# EAGLE library part 5M570ZT100C5N (library Ilya_Teach)
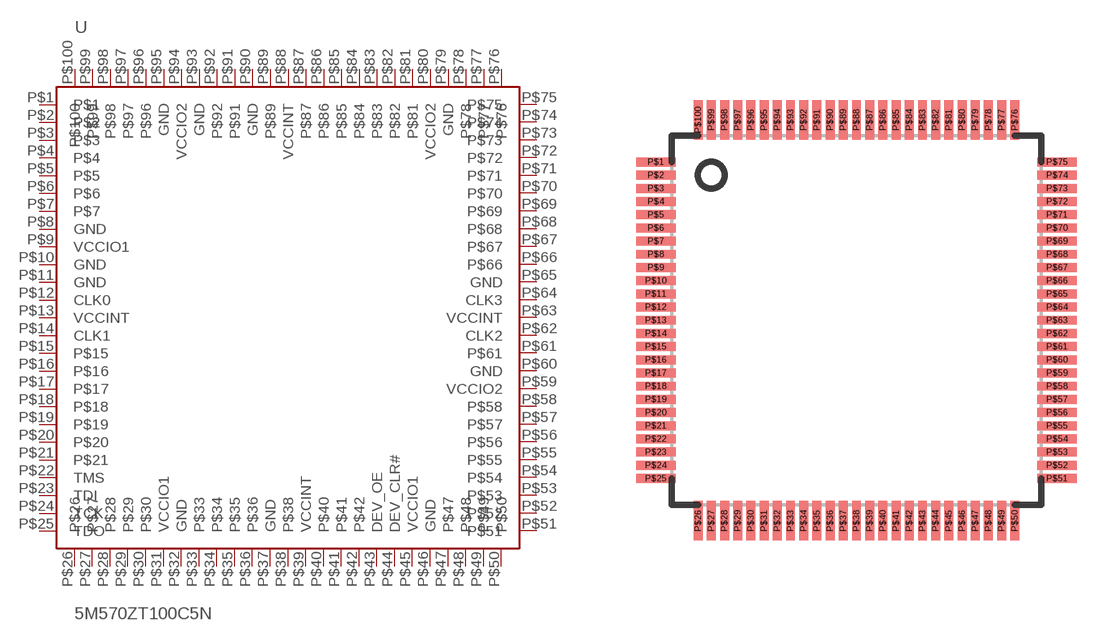
[diagram p12: symbol with the pads of TQFP100-MAXV; footprint TQFP100-MAXV]

Designator prefix -

## 5M570ZT100C5N  [TQFP100-MAXV]
P$1  P$1
P$2  P$2
P$3  P$3
P$4  P$4
P$5  P$5
P$6  P$6
P$7  P$7
P$8  GND
P$9  VCCIO1
P$10  GND
P$11  GND
P$12  CLK0
P$13  VCCINT
P$14  CLK1
P$15  P$15
P$16  P$16
P$17  P$17
P$18  P$18
P$19  P$19
P$20  P$20
P$21  P$21
P$22  TMS
P$23  TDI
P$24  TCK
P$25  TDO
P$26  P$26
P$27  P$27
P$28  P$28
P$29  P$29
P$30  P$30
P$31  VCCIO1
P$32  GND
P$33  P$33
P$34  P$34
P$35  P$35
P$36  P$36
P$37  GND
P$38  P$38
P$39  VCCINT
P$40  P$40
P$41  P$41
P$42  P$42
P$43  DEV_OE
P$44  DEV_CLR#
P$45  VCCIO1
P$46  GND
P$47  P$47
P$48  P$48
P$49  P$49
P$50  P$50
P$51  P$51
P$52  P$52
P$53  P$53
P$54  P$54
P$55  P$55
P$56  P$56
P$57  P$57
P$58  P$58
P$59  VCCIO2
P$60  GND
P$61  P$61
P$62  CLK2
P$63  VCCINT
P$64  CLK3
P$65  GND
P$66  P$66
P$67  P$67
P$68  P$68
P$69  P$69
P$70  P$70
P$71  P$71
P$72  P$72
P$73  P$73
P$74  P$74
P$75  P$75
P$76  P$76
P$77  P$77
P$78  P$78
P$79  GND
P$80  VCCIO2
P$81  P$81
P$82  P$82
P$83  P$83
P$84  P$84
P$85  P$85
P$86  P$86
P$87  P$87
P$88  VCCINT
P$89  P$89
P$90  GND
P$91  P$91
P$92  P$92
P$93  GND
P$94  VCCIO2
P$95  GND
P$96  P$96
P$97  P$97
P$98  P$98
P$99  P$99
P$100  P$100

## Footprint TQFP100-MAXV (pad centres in mm)
smd 1.5 x 0.34: P$1 -7.6,6; P$2 -7.6,5.5; P$3 -7.6,5; P$4 -7.6,4.5; P$5 -7.6,4; P$6 -7.6,3.5; P$7 -7.6,3; P$8 -7.6,2.5; P$9 -7.6,2; P$10 -7.6,1.5; P$11 -7.6,1; P$12 -7.6,0.5; P$13 -7.6,0; P$14 -7.6,-0.5; P$15 -7.6,-1; P$16 -7.6,-1.5; P$17 -7.6,-2; P$18 -7.6,-2.5; P$19 -7.6,-3; P$20 -7.6,-3.5; P$21 -7.6,-4; P$22 -7.6,-4.5; P$23 -7.6,-5; P$24 -7.6,-5.5; P$25 -7.6,-6; P$51 7.6,-6; P$52 7.6,-5.5; P$53 7.6,-5; P$54 7.6,-4.5; P$55 7.6,-4; P$56 7.6,-3.5; P$57 7.6,-3; P$58 7.6,-2.5; P$59 7.6,-2; P$60 7.6,-1.5; P$61 7.6,-1; P$62 7.6,-0.5; P$63 7.6,0; P$64 7.6,0.5; P$65 7.6,1; P$66 7.6,1.5; P$67 7.6,2; P$68 7.6,2.5; P$69 7.6,3; P$70 7.6,3.5; P$71 7.6,4; P$72 7.6,4.5; P$73 7.6,5; P$74 7.6,5.5; P$75 7.6,6
smd 0.34 x 1.5: P$26 -6,-7.6; P$27 -5.5,-7.6; P$28 -5,-7.6; P$29 -4.5,-7.6; P$30 -4,-7.6; P$31 -3.5,-7.6; P$32 -3,-7.6; P$33 -2.5,-7.6; P$34 -2,-7.6; P$35 -1.5,-7.6; P$36 -1,-7.6; P$37 -0.5,-7.6; P$38 0,-7.6; P$39 0.5,-7.6; P$40 1,-7.6; P$41 1.5,-7.6; P$42 2,-7.6; P$43 2.5,-7.6; P$44 3,-7.6; P$45 3.5,-7.6; P$46 4,-7.6; P$47 4.5,-7.6; P$48 5,-7.6; P$49 5.5,-7.6; P$50 6,-7.6; P$76 6,7.6; P$77 5.5,7.6; P$78 5,7.6; P$79 4.5,7.6; P$80 4,7.6; P$81 3.5,7.6; P$82 3,7.6; P$83 2.5,7.6; P$84 2,7.6; P$85 1.5,7.6; P$86 1,7.6; P$87 0.5,7.6; P$88 0,7.6; P$89 -0.5,7.6; P$90 -1,7.6; P$91 -1.5,7.6; P$92 -2,7.6; P$93 -2.5,7.6; P$94 -3,7.6; P$95 -3.5,7.6; P$96 -4,7.6; P$97 -4.5,7.6; P$98 -5,7.6; P$99 -5.5,7.6; P$100 -6,7.6